# EAGLE library part ZX62-B-5PA(33) (library XLibrary)
ZX Series 5 Position Right Angle PCB Wire Micro B USB Plug
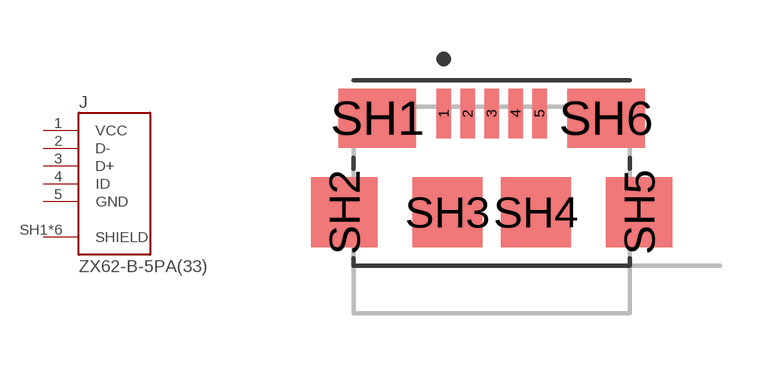
[diagram p1: symbol with the pads of HRS_ZX62-B-5PA(33); footprint HRS_ZX62-B-5PA(33)]

Designator prefix J

## ZX62-B-5PA(33) (AVAILABILITY: Unavailable; DESCRIPTION: ZX Series 5 Position Right Angle PCB Wire Micro B USB Plug; MF: Hirose; MP: ZX62-B-5PA_33_; PACKAGE: None; PRICE: None)  [HRS_ZX62-B-5PA(33)]
1  VCC  pas
2  D-  pas
3  D+  pas
4  ID  pas
5  GND  pas
SH1  SHIELD  pas
SH2  SHIELD  pas
SH3  SHIELD  pas
SH4  SHIELD  pas
SH5  SHIELD  pas
SH6  SHIELD  pas

## Footprint HRS_ZX62-B-5PA(33) (pad centres in mm)
Hirose ZX Series Receptable MicroUSB https://www.hirose.com/product/en/products/ZX/ZX62-B-5PA(33)/
smd 0.4 x 1.35: 1 -1.3,2.675; 2 -0.65,2.675; 3 0,2.675; 4 0.65,2.675; 5 1.3,2.675
smd 2.1 x 1.6: SH1 -3.1,2.55; SH6 3.1,2.55
smd 1.8 x 1.9: SH2 -4,0; SH5 4,0
smd 1.9 x 1.9: SH3 -1.2,0; SH4 1.2,0